# Altium footprint library TB_Components.PcbLib: 10 footprints
Each footprint in its own frame and in the unit in brackets; x right, y up, seen from the top. Pads: shape width x height; smd on the part's side, far side on the other; paste and mask are expansions set on the pad; w line width, h text height; cw(c..) or ccw(c..) is an arc to the next point about the centre after c.
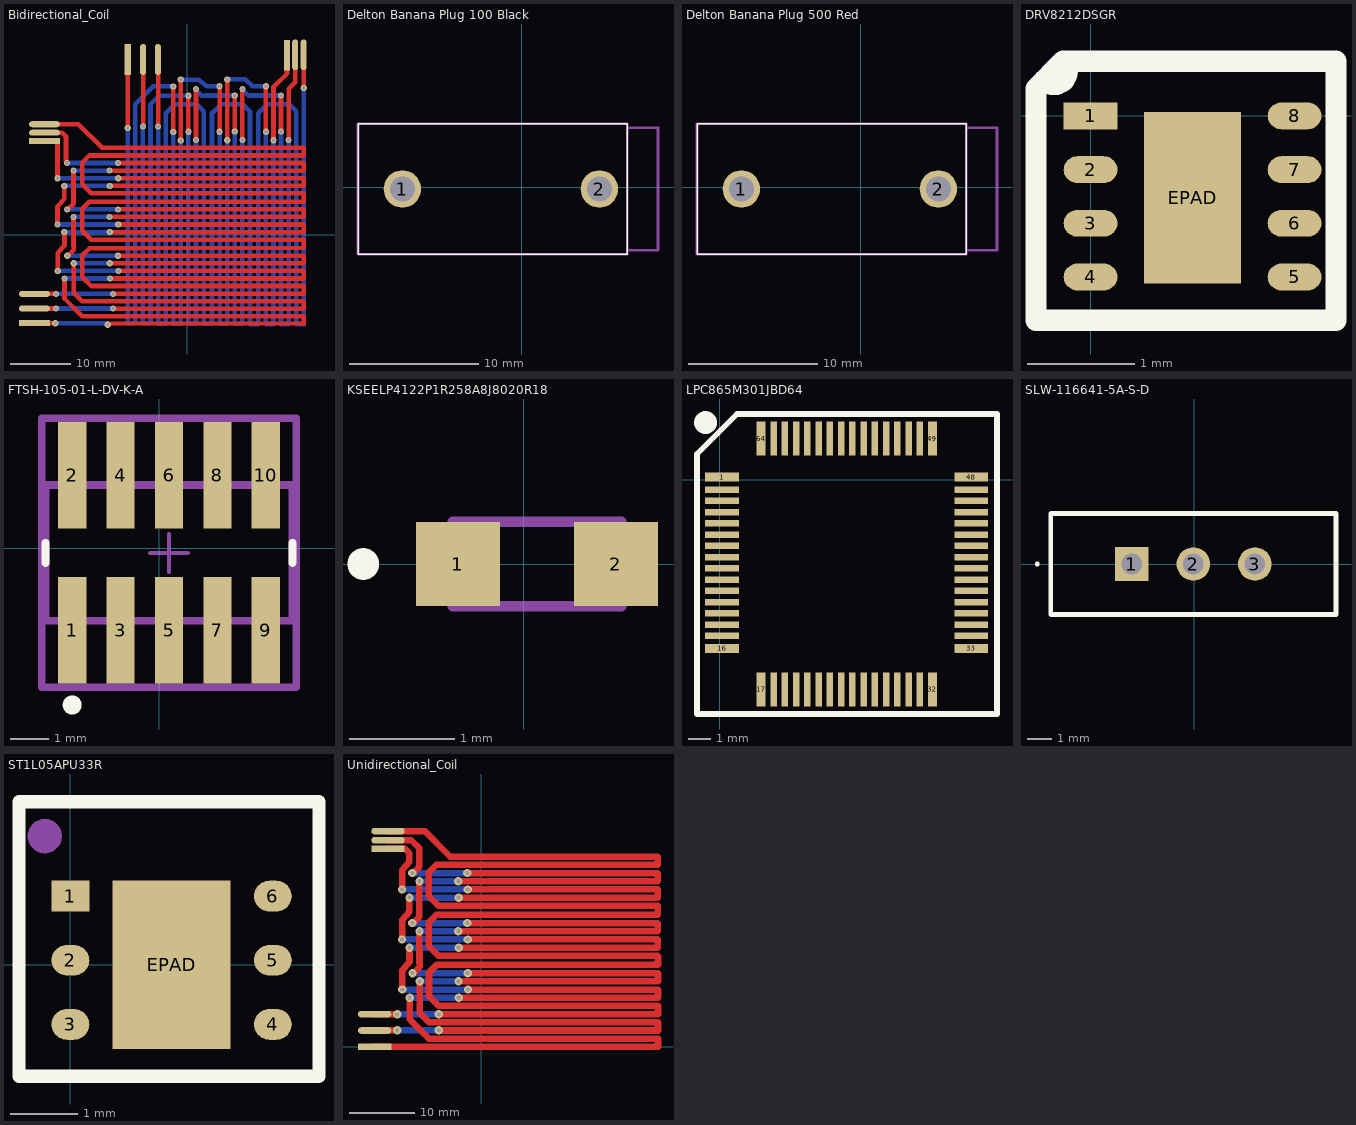
[diagram p0: the footprints below, top view; thin cyan lines are the x and y axes]

## Bidirectional_Coil [mil]
pads (12):
  rect 200x39.37 smd: A1-1(-990,-575) A1-2(-925,605)
  oval 200x39.37 smd: A2-1(-990,-480) A2-2(-925,660) A3-1(-990,-385) A3-2(-925,715)
  rect 39.37x200 smd: B1-1(-385,1135) B1-2(647.5,1162.5)
  oval 39.37x200 smd paste+0 mask+4: B2-1(-285,1135) B3-1(-190,1135)
  oval 39.37x200 smd: B2-2(700,1165) B3-2(755,1165)
via -448.72,463.16 diameter 40 hole 25
via -796.36,315.52 diameter 40 hole 25
via -501.36,315.52 diameter 40 hole 25
via -502.93,413.94 diameter 40 hole 25
via -446.36,364.73 diameter 40 hole 25
via -736.36,413.94 diameter 40 hole 25
via -840.57,364.73 diameter 40 hole 25
via -779,463.16 diameter 40 hole 25
via -796.36,15.52 diameter 40 hole 25
via -501.36,15.52 diameter 40 hole 25
via -502.93,113.94 diameter 40 hole 25
via -448.72,163.16 diameter 40 hole 25
via -446.36,64.73 diameter 40 hole 25
via -736.36,113.94 diameter 40 hole 25
via -840.57,64.73 diameter 40 hole 25
via -779,163.16 diameter 40 hole 25
via -795,-285 diameter 40 hole 25
via -500,-285 diameter 40 hole 25
via -501.57,-186.57 diameter 40 hole 25
via -447.36,-137.36 diameter 40 hole 25
via -445,-235.79 diameter 40 hole 25
via -735,-186.57 diameter 40 hole 25
via -839.21,-235.79 diameter 40 hole 25
via -777.64,-137.36 diameter 40 hole 25
via 510.52,961.36 diameter 40 hole 25
via 510.52,666.36 diameter 40 hole 25
via 608.94,667.93 diameter 40 hole 25
via 658.16,613.72 diameter 40 hole 25
via 559.73,611.36 diameter 40 hole 25
via 608.94,901.36 diameter 40 hole 25
via 210.52,961.36 diameter 40 hole 25
via 210.52,666.36 diameter 40 hole 25
via 308.94,667.93 diameter 40 hole 25
via 358.16,613.72 diameter 40 hole 25
via 259.73,611.36 diameter 40 hole 25
via 308.94,901.36 diameter 40 hole 25
via 259.73,1005.57 diameter 40 hole 25
via 358.16,944 diameter 40 hole 25
via -90,960 diameter 40 hole 25
via -90,665 diameter 40 hole 25
via 8.43,666.57 diameter 40 hole 25
via 57.64,612.36 diameter 40 hole 25
via -40.79,610 diameter 40 hole 25
via 8.43,900 diameter 40 hole 25
via -40.79,1004.21 diameter 40 hole 25
via 57.64,942.64 diameter 40 hole 25
via 756.58,950 diameter 40 hole 25
via -385,690 diameter 40 hole 25
via -286.57,700 diameter 40 hole 25
via -188.15,700 diameter 40 hole 25
via -850,-385 diameter 40 hole 25
via -850,-480 diameter 40 hole 25
via -855,-575 diameter 40 hole 25
via -480,-384.96 diameter 40 hole 25
via -480,-480.04 diameter 40 hole 25
via -515,-585 diameter 40 hole 25
Top Layer:
  lines w30: -990,-575 -855,-575 ; -990,-480 -850,-480 ; -990,-385 -850,-385 ; -925,605 -840.57,605 -840.57,604.43 -840.57,481.31 -840.57,364.73 ; -925,660 -810,660 -785,635 -785,560 -785,474.43 -773.72,463.16 -779,463.16 ; -925,715 -855.18,715 -705,715 -551.58,561.58 755,561.58 755,512.37 -306.36,512.37 -634.51,512.37 -680.3,466.58 -680.3,324.46 -622.42,266.58 -435.3,266.58 755,266.58 755,212.37 -306.36,212.37 -634.51,212.37 -680.3,166.58 -680.3,24.46 -622.42,-33.42 -435.3,-33.42 755,-33.42 755,-85.14 -305,-88.15 -633.15,-88.15 -678.94,-133.94 -678.94,-276.06 -621.06,-333.94 -433.94,-333.94 755,-333.94 755,-383.22 -480,-384.96 ; -840.57,64.73 -840.57,181.31 -796.36,230.52 ; -839.21,-235.79 -839.21,-119.21 -795,-70 -795,10 ; -796.36,-70 -796.36,15.52 ; -796.36,310.52 -796.36,230.52 ; -796.36,315.52 -796.36,230.52 ; -795,-285 -795,-415 -679.21,-530.79 -678.94,-530.79 -433.94,-530.79 ; -779,163.16 -773.72,163.16 -736.36,200.52 -736.36,310.52 ; -777.64,-137.36 -772.36,-137.36 -735,-100 -735,10 ; -736.36,-75.78 -736.36,113.94 ; -736.36,224.22 -736.36,413.94 ; -735,-186.57 -735,-376.3 -678.94,-432.36 -433.94,-432.36 ; -514.96,-575.02 755,-579.83 755,-530.79 -445,-530.79 ; -502.93,113.94 -306.36,113.94 755,113.94 755,163.16 -448.72,163.16 ; -502.93,413.94 -306.36,413.94 755,413.94 755,463.16 -448.72,463.16 ; -501.57,-186.57 -305,-186.57 755,-186.57 755,-137.36 -447.36,-137.36 ; -501.36,15.52 -306.36,15.52 755,15.52 755,64.73 -446.36,64.73 ; -501.36,315.52 -306.36,315.52 755,315.52 755,364.73 -446.36,364.73 ; -500,-285 -305,-285 755,-285 755,-235.79 -445,-235.79 ; -480,-480.04 755,-481.52 755,-432.36 -447.36,-432.36 ; -385,690 -385,1160 ; -285,701.57 -285,1135 ; -188.15,700 -188.15,1135 ; -90,665 -90,960 ; -40.79,610 -40.79,1004.21 ; 8.43,666.57 8.43,900 ; 57.64,612.36 57.64,942.64 ; 210.52,666.36 210.52,961.36 ; 259.73,611.36 259.73,1005.57 ; 308.94,667.93 308.94,901.36 ; 358.16,613.72 358.16,944 358.16,938.72 ; 510.52,666.36 510.52,961.36 ; 559.73,611.36 559.73,954.73 647.5,1042.5 647.5,1162.5 ; 608.94,667.93 608.94,901.36 ; 658.16,613.72 658.16,944 700,985.84 700,1115 ; 756.58,950 756.58,1163.42
Bottom Layer:
  lines w30: -855,-575 -525,-575 ; -850,-385 -480.04,-385 ; -849.96,-480.04 -480,-480.04 ; -840.57,64.73 -446.36,64.73 ; -840.57,364.73 -446.36,364.73 ; -839.21,-235.79 -445,-235.79 ; -796.36,15.52 -501.36,15.52 ; -796.36,315.52 -501.36,315.52 ; -795,-285 -500,-285 ; -779,163.16 -448.72,163.16 ; -779,463.16 -448.72,463.16 ; -777.64,-137.36 -447.36,-137.36 ; -736.36,113.94 -502.93,113.94 ; -736.36,413.94 -502.93,413.94 ; -735,-186.57 -501.57,-186.57 ; -385,690 -385,-576.22 -335.79,-576.22 -335.79,610 ; -335.79,598.94 -335.79,843.94 -335.79,844.21 -220,960 -90,960 ; -286.57,700 -286.57,-576.22 -237.36,-576.22 -237.36,612.36 ; -237.36,598.94 -237.36,843.94 -181.3,900 8.43,900 ; -188.15,700 -188.15,-576.69 -138.94,-576.69 -138.94,598.94 -138.94,786.06 -81.06,843.94 61.06,843.94 106.85,798.15 106.85,470 106.85,-577.64 161.58,-577.64 161.58,600.3 161.58,787.42 219.46,845.3 361.58,845.3 407.37,799.51 407.37,471.36 407.37,-580 461.58,-580 461.58,600.3 461.58,787.42 519.46,845.3 661.58,845.3 707.37,799.51 707.37,471.36 707.37,-580 756.58,-580 756.58,716.58 756.58,950 ; -90,665 -90,470 -90,-576.69 -40.79,-576.69 -40.79,610 ; -40.79,1004.21 75.79,1004.21 125,960 205,960 ; 8.43,666.57 8.43,470 8.43,-578.6 57.64,-578.6 57.64,612.36 ; 57.64,942.64 57.64,937.36 95,900 205,900 ; 119.22,901.36 308.94,901.36 ; 125,961.36 210.52,961.36 ; 210.52,666.36 210.52,471.36 210.52,-577.64 259.73,-577.64 259.73,611.36 ; 259.73,1005.57 376.31,1005.57 425.52,961.36 ; 308.94,667.93 308.94,471.36 308.94,-578.12 358.16,-578.12 358.16,613.72 ; 358.16,938.72 395.52,901.36 505.52,901.36 ; 419.22,901.36 608.94,901.36 ; 505.52,961.36 425.52,961.36 ; 510.52,666.36 510.52,471.36 510.52,-580 559.73,-580 559.73,611.36 ; 510.52,961.36 425.52,961.36 ; 608.94,667.93 608.94,471.36 608.94,-580 658.16,-580 658.16,613.72

## Delton Banana Plug 100 Black [mm]
pads (2):
  round 2.91 hole 1.94: 1(-9.271,-0.127) 2(6.029,-0.127)
Top Overlay:
  lines w0.1: -12.721,-5.207 -12.721,4.953 8.179,4.953 8.179,-5.207 -12.721,-5.207
Top Courtyard:
  lines w0.2: 8.179,-4.877 10.579,-4.877 10.579,4.623 8.179,4.623 ; -12.721,-5.207 -12.721,4.953 8.179,4.953 8.179,-5.207 -12.721,-5.207
3D body "571-0100.stp": height 12.4, standoff -5.5, extent -12.031,-5.154 11.269,5.346

## Delton Banana Plug 500 Red [mm]
pads (2):
  round 2.91 hole 1.94: 1(-9.271,-0.127) 2(6.029,-0.127)
Top Overlay:
  lines w0.1: -12.721,-5.207 -12.721,4.953 8.179,4.953 8.179,-5.207 -12.721,-5.207
Top Courtyard:
  lines w0.2: 8.179,-4.877 10.579,-4.877 10.579,4.623 8.179,4.623 ; -12.721,-5.207 -12.721,4.953 8.179,4.953 8.179,-5.207 -12.721,-5.207
3D body "571-0500.stp": height 12.4, standoff -5.5, extent -12.701,-5.016 10.669,5.334

## DRV8212DSGR [mm]
pads (9):
  rect 0.5x0.25 smd paste+0 mask+0.025: 1(0,0)
  oval 0.5x0.25 smd mask+0.025: 2(0,-0.5) 3(0,-1) 4(0,-1.5) 5(1.9,-1.5) 6(1.9,-1) 7(1.9,-0.5) 8(1.9,0)
  rect 0.9x1.6 smd mask+0.025: EPAD(0.95,-0.762)
Top Overlay:
  lines w0.2: -0.431,0.331 ccw(c-0.342,0.419) -0.254,0.508 ; -0.254,0.508 2.286,0.508 2.286,-1.905 -0.508,-1.905 -0.508,0.254 -0.254,0.508
3D body "DRV8212DSGR.stp": height 0.77, standoff 0, extent -0.054,-1.744 1.946,0.256

## FTSH-105-01-L-DV-K-A [mm]
pads (10):
  rect 0.74x2.79 smd paste+0 mask+0: 1(-2.286,-2.162) 2(-2.286,1.908) 3(-1.016,-2.162) 4(-1.016,1.908) 5(0.254,-2.162) 6(0.254,1.908) 7(1.524,-2.162) 8(1.524,1.908) 9(2.794,-2.162) 10(2.794,1.908)
Top Overlay:
  circle w0.25: c-2.286,-4.117 r0.125
  lines w0.2: -2.986,-0.392 -2.986,0.138 ; 3.494,-0.392 3.494,0.138
Top Assembly:
  lines w0.2: -3.086,-3.657 3.594,-3.657 3.594,3.403 -3.086,3.403 -3.086,-3.657
  text ".Designator" at 0.254,-0.128 h1
Top 3D Body:
  lines w0.2: -2.986,-1.907 3.494,-1.907 3.494,1.653 -2.986,1.653 -2.986,-1.907
Top Courtyard:
  lines w0.2: -3.086,-3.657 3.594,-3.657 3.594,3.403 -3.086,3.403 -3.086,-3.657
Top Component Center:
  lines w0.1: -0.246,-0.127 0.754,-0.127 ; 0.254,-0.627 0.254,0.373
3D body "Conn_Samtec_FTSH-105-01-L-DV-K-P-TR_eec.STEP": height 0.25, standoff 0, extent -3.086,-3.657 3.594,3.403

## KSEELP4122P1R258A8J8020R18 [mm]
height 5.08
pads (2):
  rect 0.8x0.8 smd: 1(-0.623,0) 2(0.877,0)
Top Overlay:
  lines w0.2: -1.573,0 ccw(c-1.523,0) -1.473,0 ; -1.573,0 cw(c-1.523,0) -1.473,0 ; -1.573,0 ccw(c-1.523,0) -1.473,0
Top Courtyard:
  lines w0.1: -0.673,-0.4 -0.673,0.4 0.927,0.4 0.927,-0.4 -0.673,-0.4
3D body "KS_EELP41.22-P1R2-58-A8J8-020-R18.stp": height 0.36, standoff 0, extent -0.673,-0.4 0.927,0.4

## LPC865M301JBD64 [mm]
pads (64):
  rect 1.5x0.4 smd mask+0.025: 1(0.098,0.119) 16(0.098,-7.501) 33(11.176,-7.501) 48(11.176,0.119)
  rect 1.5x0.28 smd mask+0.025: 2(0.098,-0.441) 3(0.098,-0.941) 4(0.098,-1.441) 5(0.098,-1.941) 6(0.098,-2.441) 7(0.098,-2.941) 8(0.098,-3.441) 9(0.098,-3.941) 10(0.098,-4.441) 11(0.098,-4.941) 12(0.098,-5.441) 13(0.098,-5.941) 14(0.098,-6.441) 15(0.098,-6.941) 34(11.176,-6.941) 35(11.176,-6.441) 36(11.176,-5.941) 37(11.176,-5.441) 38(11.176,-4.941) 39(11.176,-4.441) 40(11.176,-3.941) 41(11.176,-3.441) 42(11.176,-2.941) 43(11.176,-2.441) 44(11.176,-1.941) 45(11.176,-1.441) 46(11.176,-0.941) 47(11.176,-0.441)
  rect 0.4x1.5 smd mask+0.025: 17(1.831,-9.322) 32(9.451,-9.322) 49(9.451,1.831) 64(1.831,1.831)
  rect 0.28x1.5 smd mask+0.025: 18(2.391,-9.322) 19(2.891,-9.322) 20(3.391,-9.322) 21(3.891,-9.322) 22(4.391,-9.322) 23(4.891,-9.322) 24(5.391,-9.322) 25(5.891,-9.322) 26(6.391,-9.322) 27(6.891,-9.322) 28(7.391,-9.322) 29(7.891,-9.322) 30(8.391,-9.322) 31(8.891,-9.322) 50(8.891,1.831) 51(8.391,1.831) 52(7.891,1.831) 53(7.391,1.831) 54(6.891,1.831) 55(6.391,1.831) 56(5.891,1.831) 57(5.391,1.831) 58(4.891,1.831) 59(4.391,1.831) 60(3.891,1.831) 61(3.391,1.831) 62(2.891,1.831) 63(2.391,1.831)
Top Overlay:
  circle w0.508: c-0.635,2.54 r0.254
  lines w0.254: -1.016,-10.414 12.319,-10.414 12.319,2.921 0.762,2.921 -1.016,1.143 -1.016,-10.414
3D body "LPC865M201JBD64_0E.stp": height 1.6, standoff 0, extent -0.358,-9.69 11.642,2.31

## SLW-116641-5A-S-D [mm]
pads (3):
  rect 1.365x1.365 hole 0.84: 1(-2.54,0)
  round 1.365 hole 0.84: 2(-0.04,0) 3(2.46,0)
Top Overlay:
  lines w0.1: -6.44,0 ccw(c-6.39,0) -6.34,0 ccw(c-6.39,0) -6.44,0
  lines w0.2: -5.84,-2.05 -5.84,2.05 5.76,2.05 5.76,-2.05 -5.84,-2.05
Top Courtyard:
  lines w0.1: -5.84,-2.05 -5.84,2.05 5.76,2.05 5.76,-2.05 -5.84,-2.05
3D body "SLW-116641-5A-S-D.stp": height 11, standoff -3.33, extent -5.84,-2.05 5.76,2.05

## ST1L05APU33R [mil]
pads (7):
  rect 22x18 smd: 1(0,40)
  oval 22x18 smd: 2(0,2.6) 3(0,-34.8) 4(118.11,-34.8) 5(118.11,2.6) 6(118.11,40)
  rect 68.9x98.43 smd: EPAD(59.06,0)
Top Overlay:
  lines w7.87: -30,-65 -30,95 145,95 145,-65 -30,-65
Mechanical 1:
  circle w10: c-15,75 r5
3D body "ST1L05APU33R.stp": height 39.37, standoff 0, extent -1.02,-56.06 121.02,62.06

## Unidirectional_Coil [mil]
pads (6):
  rect 200x39.37 smd: A1-1(-640,0) A1-2(-560,1190)
  oval 200x39.37 smd: A2-1(-640,98.43) A2-2(-560,1240) A3-1(-640,196.85) A3-2(-560,1295)
via -505,100 diameter 50 hole 25
via -505,195 diameter 50 hole 25
via -255,100 diameter 50 hole 25
via -255,195 diameter 50 hole 25
via -431.36,895.52 diameter 50 hole 25
via -136.36,895.52 diameter 50 hole 25
via -137.93,993.94 diameter 50 hole 25
via -83.72,1043.16 diameter 50 hole 25
via -81.36,944.73 diameter 50 hole 25
via -371.36,993.94 diameter 50 hole 25
via -475.57,944.73 diameter 50 hole 25
via -414,1043.16 diameter 50 hole 25
via -431.36,595.52 diameter 50 hole 25
via -136.36,595.52 diameter 50 hole 25
via -137.93,693.94 diameter 50 hole 25
via -83.72,743.16 diameter 50 hole 25
via -81.36,644.73 diameter 50 hole 25
via -371.36,693.94 diameter 50 hole 25
via -475.57,644.73 diameter 50 hole 25
via -414,743.16 diameter 50 hole 25
via -430,295 diameter 50 hole 25
via -135,295 diameter 50 hole 25
via -136.57,393.43 diameter 50 hole 25
via -82.36,442.64 diameter 50 hole 25
via -80,344.21 diameter 50 hole 25
via -370,393.43 diameter 50 hole 25
via -474.21,344.21 diameter 50 hole 25
via -412.64,442.64 diameter 50 hole 25
Top Layer:
  lines w39.37: -640,0 60,0 1060,0 1060,49.21 -80,49.21 ; -640,196.85 -506.85,196.85 -505,195 ; -638.43,100 -505,100 ; -560,1190 -460,1190 -431.36,1161.36 -431.36,1110.52 -475.57,1061.31 -475.57,944.73 ; -560,1240 -420,1240 -371.36,1191.36 -371.36,1109.79 -371.36,1080.52 -408.72,1043.16 -414,1043.16 ; -560,1295 -490.18,1295 -340,1295 -186.58,1141.58 1058.64,1141.58 1058.64,1092.37 58.64,1092.37 -269.51,1092.37 -315.3,1046.58 -315.3,904.46 -257.42,846.58 -70.3,846.58 1058.64,846.58 1058.64,797.37 ; -475.57,644.73 -475.57,761.31 -431.36,810.52 ; -474.21,344.21 -474.21,460.79 -430,510 -430,590 ; -431.36,510 -431.36,595.52 ; -431.36,890.52 -431.36,810.52 ; -431.36,895.52 -431.36,810.52 ; -430,295 -430,165 -314.21,49.21 -313.94,49.21 -68.94,49.21 ; -414,743.16 -408.72,743.16 -371.36,780.52 -371.36,890.52 ; -412.64,442.64 -407.36,442.64 -370,480 -370,590 ; -371.36,504.22 -371.36,693.94 ; -371.36,804.22 -371.36,993.94 ; -370,393.43 -370,203.7 -313.94,147.64 -68.94,147.64 ; -253.43,98.43 60,98.43 1060,98.43 1060,147.64 -82.36,147.64 ; -253.15,196.85 60,196.85 1060,196.85 1060,246.06 -68.94,246.06 -256.06,246.06 -313.94,303.94 -313.94,446.06 -268.15,491.85 60,491.85 1060,491.85 1060,541.06 ; -137.93,693.94 58.64,693.94 1058.64,693.94 1058.64,743.16 -83.72,743.16 ; -137.93,993.94 58.64,993.94 1058.64,993.94 1058.64,1043.16 -83.72,1043.16 ; -136.57,393.43 60,393.43 1060,393.43 1060,442.64 -82.36,442.64 ; -136.36,595.52 58.64,595.52 1058.64,595.52 1058.64,644.73 -81.36,644.73 ; -136.36,895.52 58.64,895.52 1058.64,895.52 1058.64,944.73 -81.36,944.73 ; -135,295 60,295 1060,295 1060,344.21 -80,344.21 ; 1058.64,497.37 1058.64,546.58 -70.3,546.58 -257.42,546.58 -315.3,604.46 -315.3,746.58 -269.51,792.37 58.64,792.37 1058.64,792.37 1058.64,841.58
Bottom Layer:
  lines w39.37: -505,100 -255,100 ; -505,195 -255,195 ; -475.57,644.73 -81.36,644.73 ; -475.57,944.73 -81.36,944.73 ; -474.21,344.21 -80,344.21 ; -431.36,595.52 -136.36,595.52 ; -431.36,895.52 -136.36,895.52 ; -430,295 -135,295 ; -414,743.16 -83.72,743.16 ; -414,1043.16 -83.72,1043.16 ; -412.64,442.64 -82.36,442.64 ; -371.36,693.94 -137.93,693.94 ; -371.36,993.94 -137.93,993.94 ; -370,393.43 -136.57,393.43